# Altium footprint library CAPAE800X600_N.PcbLib: 1 footprints
Each footprint in its own frame and in the unit in brackets; x right, y up, seen from the top. Pads: shape width x height; smd on the part's side, far side on the other; paste and mask are expansions set on the pad; w line width, h text height; cw(c..) or ccw(c..) is an arc to the next point about the centre after c.
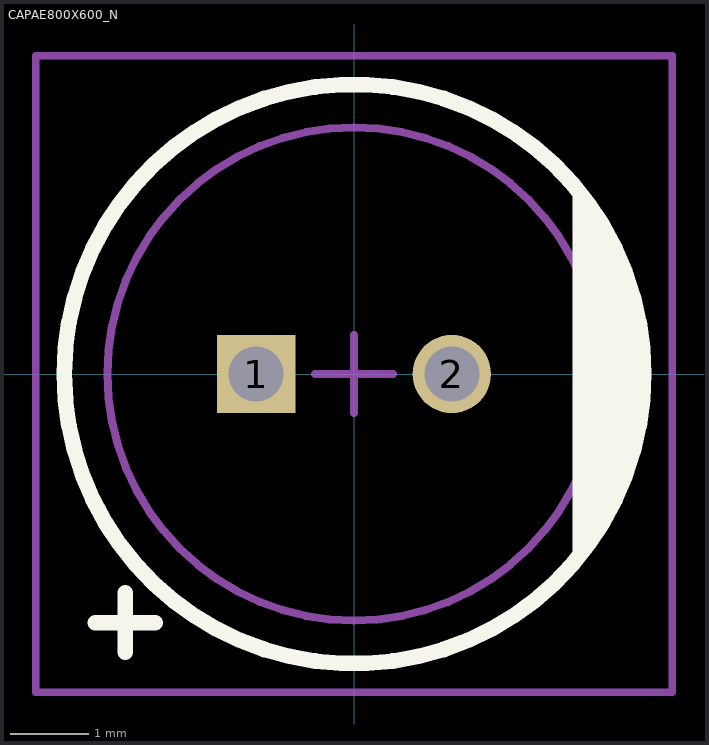
[diagram p0: the footprint, top view; thin cyan lines are the x and y axes]

## CAPAE800X600_N [mm] "Aluminum CAN Capacitor, EIA Case D8, Base 8x8mm, Height 6mm, IPC Medium Density"
height 6
pads (2):
  rect 1x1 hole 0.7: 1(-1.25,0)
  round 1 hole 0.7: 2(1.25,0)
Top Overlay:
  circle w0.2: c0,0 r3.7
  region: 2.794,2.413 2.794,-2.413 3.175,-2.032 3.175,-1.778 3.429,-1.524 3.429,-1.143 3.683,-0.889 3.683,-0.017 3.7,0 3.683,0.017 3.683,0.762 3.556,0.889 3.556,1.143 3.429,1.27 3.429,1.524 3.048,1.905 3.048,2.159
  lines w0.2: -3.302,-3.175 -2.54,-3.175 ; -2.921,-3.556 -2.921,-2.794
Mechanical 13:
  circle w0.1: c0,0 r3.15
Mechanical 15:
  lines w0.1: -0.5,0 0.5,0 ; 0,-0.5 0,0.5 ; -4.064,-4.064 -4.064,4.064 4.064,4.064 4.064,-4.064 -4.064,-4.064
3D body: height 6, standoff -3, extent -4,-4 4,4